# Altium schematic symbol library Shield_Connector.Schlib: 1 symbol
Pins are listed as number, name and electrical type; pins without a type are passive.

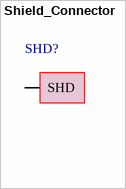
[diagram p0: symbol Shield_Connector]

## Shield_Connector
designator SHD?
Shield_Connector
pins: 1 SHD